# Altium schematic symbol library DIODES.SchLib: 21 symbols
Pins are listed as number, name and electrical type; pins without a type are passive.

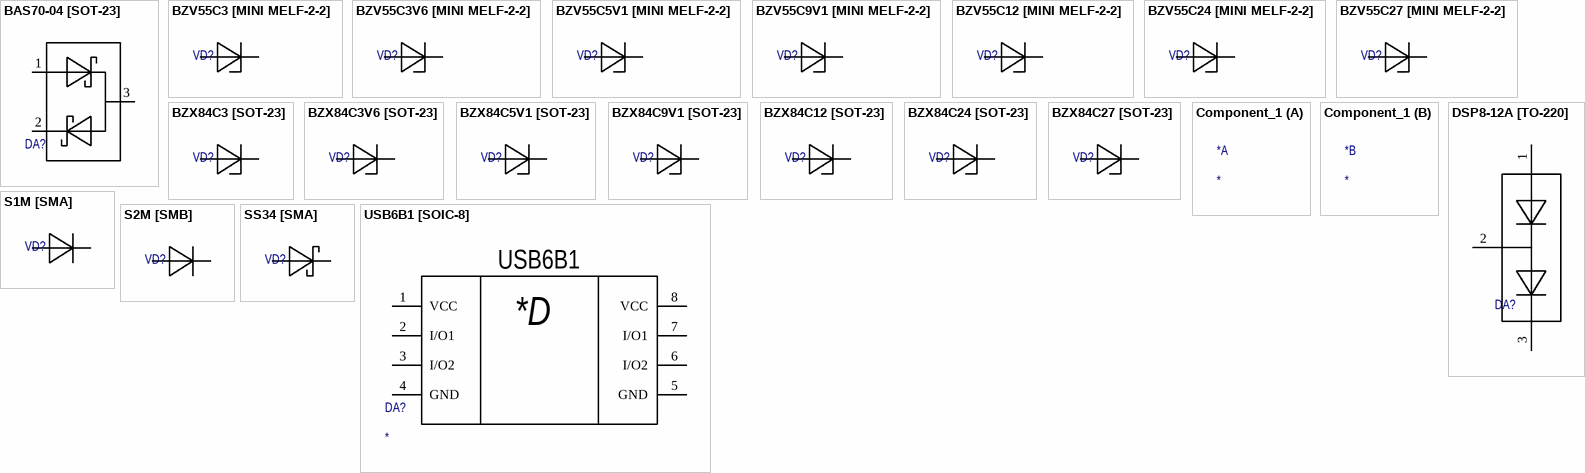
[diagram p0: symbols BAS70-04 [SOT-23] to USB6B1 [SOIC-8]]

## BAS70-04 [SOT-23]
designator DA?  (value not drawn)
Schottky diode array 70V, 0.07A, Vf1 = 0.41V
footprint BAS70-04 [SOT-23]
pins: 1, 2, 3

## BZV55C3 [MINI MELF-2-2]
designator VD?  (value not drawn)
Zener diode 3V, 5%
footprint BZV55 [MINI MELF-2-2]
pins: 1, 2

## BZV55C3V6 [MINI MELF-2-2]
designator VD?  (value not drawn)
Zener diode 3.6V, 5%
footprint BZV55 [MINI MELF-2-2]
pins: 1, 2

## BZV55C5V1 [MINI MELF-2-2]
designator VD?  (value not drawn)
Zener diode 5.1V, 5%
footprint BZV55 [MINI MELF-2-2]
pins: 1, 2

## BZV55C9V1 [MINI MELF-2-2]
designator VD?  (value not drawn)
Zener diode 9.1V, 5%
footprint BZV55 [MINI MELF-2-2]
pins: 1, 2

## BZV55C12 [MINI MELF-2-2]
designator VD?  (value not drawn)
Zener diode 12V, 5%
footprint BZV55 [MINI MELF-2-2]
pins: 1, 2

## BZV55C24 [MINI MELF-2-2]
designator VD?  (value not drawn)
Zener diode 24V, 5%
footprint BZV55 [MINI MELF-2-2]
pins: 1, 2

## BZV55C27 [MINI MELF-2-2]
designator VD?  (value not drawn)
Zener diode 27V, 5%
footprint BZV55 [MINI MELF-2-2]
pins: 1, 2

## BZX84C3 [SOT-23]
designator VD?  (value not drawn)
Zener diode 3V, 5%
footprint BZX84 [SOT-23]
pins: 1, 3

## BZX84C3V6 [SOT-23]
designator VD?  (value not drawn)
Zener diode 3.6V, 5%
footprint BZX84 [SOT-23]
pins: 1, 3

## BZX84C5V1 [SOT-23]
designator VD?  (value not drawn)
Zener diode 5.1V, 5%
footprint BZX84 [SOT-23]
pins: 1, 3

## BZX84C9V1 [SOT-23]
designator VD?  (value not drawn)
Zener diode 9V, 5%
footprint BZX84 [SOT-23]
pins: 1, 3

## BZX84C12 [SOT-23]
designator VD?  (value not drawn)
Zener diode 12V, 5%
footprint BZX84 [SOT-23]
pins: 1, 3

## BZX84C24 [SOT-23]
designator VD?  (value not drawn)
Zener diode 24V, 5%
footprint BZX84 [SOT-23]
pins: 1, 3

## BZX84C27 [SOT-23]
designator VD?  (value not drawn)
Zener diode 27V, 5%
footprint BZX84 [SOT-23]
pins: 1, 3

## Component_1
designator *

## DSP8-12A [TO-220]
designator DA?  (value not drawn)
footprint DSP8-12A [TO-220] MT1 (Mounting type 1)
footprint DSP8-12A [TO-220] MT2 (Mounting type 2)
pins: 1, 2, 3

## S1M [SMA]
designator VD?, comment DSP8-12A  (value not drawn)
Diode 1000V, 1A, Vf = 1.1V
footprint S1M [SMA]
pins: 1, 2

## S2M [SMB]
designator VD?, comment DSP8-12A  (value not drawn)
Diode 1000V, 2A,                Vf = 1.15V
footprint S2M [SMB]
pins: 1, 2

## SS34 [SMA]
designator VD?, comment DSP8-12A  (value not drawn)
Shottky diode 40V, 3A, Vf = 0.5V
footprint SS34 [SMA]
pins: 1, 2

## USB6B1 [SOIC-8]
designator DA?
TVS diode IC. 2 Channels , Vf = 6V.
footprint USB6B1RL [SOIC-8]
pins: 1 VCC, 2 I/O1, 3 I/O2, 4 GND, 5 GND, 6 I/O2, 7 I/O1, 8 VCC
text: USB6B1; *D